# EAGLE library part PCT2075TP (library pimoroni-ics)
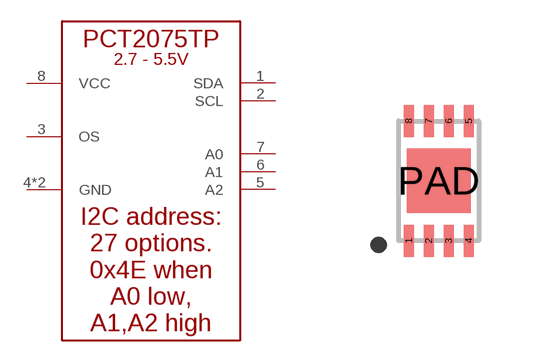
[diagram p126: symbol with the pads of HWSON8-2X3MM; footprint HWSON8-2X3MM]

Designator prefix U

## PCT2075TP  [HWSON8-2X3MM]
1  SDA
2  SCL
3  OS
4  GND
5  A2
6  A1
7  A0
8  VCC
PAD  GND

## Footprint HWSON8-2X3MM (pad centres in mm)
smd 0.25 x 0.8: 1 -0.75,-1.5; 2 -0.25,-1.5; 3 0.25,-1.5; 4 0.75,-1.5; 5 0.75,1.5; 6 0.25,1.5; 7 -0.25,1.5; 8 -0.75,1.5
smd 1.6 x 1.6: PAD 0,0